# Altium schematic symbol library PUSB3AB4Z.SchLib: 1 symbol
Pins are listed as number, name and electrical type; pins without a type are passive.

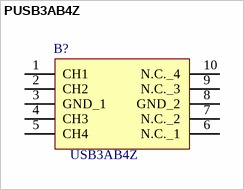
[diagram p0: symbol PUSB3AB4Z]

## PUSB3AB4Z
designator B?, comment USB3AB4Z
PUSB3AB4 - ESD protection for ultra high-speed interfaces; Manufacturer_Name: Nexperia; Manufacturer_Part_Number: PUSB3AB4Z; Geometry.Height: 0.5mm; Mouser Part Number: 771-PUSB3AB4Z; Mouser Price/Stock: https://www.mouser.co.uk/ProductDetail/Nexperia/PUSB3AB4Z?qs=sPdA%252BpIfi%2F%252BQqDUUBPFV5w%3D%3D; Datasheet Link: https://assets.nexperia.com/documents/data-sheet/PUSB3AB4.pdf
pins: 1 CH1, 2 CH2, 3 GND_1, 4 CH3, 5 CH4, 6 N.C._1, 7 N.C._2, 8 GND_2, 9 N.C._3, 10 N.C._4